# EAGLE library part PCIE-036-02-F-D-RA (library CONNECTORs)
36 Position Female Connector PCI Express™ Gold 0.039" (1.00mm) Black
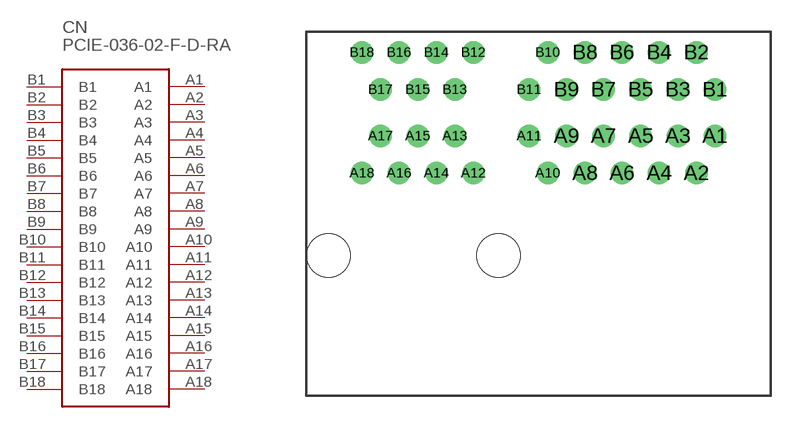
[diagram p87: symbol with the pads of PCIE-036-02-F-D-RA; footprint PCIE-036-02-F-D-RA]

Designator prefix CN

## PCIE-036-02-F-D-RA (DIGIKEY: SAM10624-ND; HEIGHT: 10; PRICE_PER: 4.96; VALUE: PCIE 1X RA)  [PCIE-036-02-F-D-RA]
A1  A1
A2  A2
A3  A3
A4  A4
A5  A5
A6  A6
A7  A7
A8  A8
A9  A9
A10  A10
A11  A11
A12  A12
A13  A13
A14  A14
A15  A15
A16  A16
A17  A17
A18  A18
B1  B1
B2  B2
B3  B3
B4  B4
B5  B5
B6  B6
B7  B7
B8  B8
B9  B9
B10  B10
B11  B11
B12  B12
B13  B13
B14  B14
B15  B15
B16  B16
B17  B17
B18  B18

## Footprint PCIE-036-02-F-D-RA (pad centres in mm)
drill 0.7: A1 9.5,4.2; A2 8.5,2.2; A3 7.5,4.2; A4 6.5,2.2; A5 5.5,4.2; A6 4.5,2.2; A7 3.5,4.2; A8 2.5,2.2; A9 1.5,4.2; A10 0.5,2.2; A11 -0.5,4.2; A12 -3.5,2.2; A13 -4.5,4.2; A14 -5.5,2.2; A15 -6.5,4.2; A16 -7.5,2.2; A17 -8.5,4.2; A18 -9.5,2.2; B1 9.5,6.7; B2 8.5,8.7; B3 7.5,6.7; B4 6.5,8.7; B5 5.5,6.7; B6 4.5,8.7; B7 3.5,6.7; B8 2.5,8.7; B9 1.5,6.7; B10 0.5,8.7; B11 -0.5,6.7; B12 -3.5,8.7; B13 -4.5,6.7; B14 -5.5,8.7; B15 -6.5,6.7; B16 -7.5,8.7; B17 -8.5,6.7; B18 -9.5,8.7
hole 2.35 at -11.3,-2.25
hole 2.35 at -2.15,-2.25